# Altium schematic symbol library Schlib_Boost.SchLib: 2 symbols
Pins are listed as number, name and electrical type; pins without a type are passive.

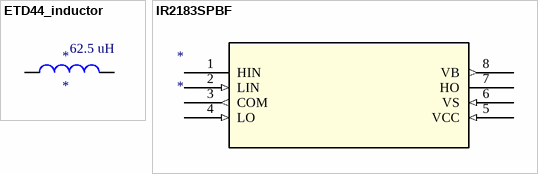
[diagram p0: symbols ETD44_inductor to IR2183SPBF]

## ETD44_inductor
designator *
footprint ETD44
pins: 1, 2
text: 62.5 uH

## IR2183SPBF
designator *
Infineon IR2183SPBF, Dual MOSFET Power Driver, 2.3A Half Bridge, 10  20 V, 8-Pin SOIC; Manufacturer: International Rectifier; Turn-On Delay Time: 35ns; Number of Outputs: 2; Max Supply Voltage: 20V; Min Supply Voltage: 10V; Turn-Off Delay Time: 220ns; Max Supply Current: 1.6mA; Power Dissipation: 625mW; Rise Time: 60ns; Propagation Delay: 330ns; Output Current: 1.9A; Supplier 1: Digi-Key; Manufacturer Part Number: IR2183SPBF; RoHS: Yes; Category: Gate Drivers; Stock 1: 12591; Pricing 1: 1=3.18000, 10=2.85300, 25=2.69760, 100=2.21800, 250=1.99016, 500=1.91824, 1000=1.59454 (USD); Mount: Surface Mount; Case/Package: SOIC; Number of Pins: 8; Min Operating Temperature: -40°C; Max Operating Temperature: 125°C; Number of Drivers: 2; Fall Time: 35ns; Max Output Current: 2.3A; Packaging: Rail/Tube; Max Power Dissipation: 625mW; Package Quantity: 95; Release Time: 220ns; Nominal Supply Current: 1.6mA; Length: 5mm; Height: 1.5mm; Width: 4mm; Radiation Hardening: No; Lead Free: Lead Free; REACH SVHC: No SVHC; ComponentLink1URL: https://datasheet.ciiva.com/15110/getdatasheetpartid-312130-15110158.pdf?src-supplier=Verical; ComponentLink1Description: https://datasheet.ciiva.com/15110/getdatasheetpartid-312130-15110158.pdf?src-supplier=Verical; ComponentLink2URL: https://datasheet.ciiva.com/1499/ir2183-1499705.pdf?src-supplier=Element14; ComponentLink2Description: https://datasheet.ciiva.com/1499/ir2183-1499705.pdf?src-supplier=Element14; ComponentLink3URL: https://datasheet.ciiva.com/14150/ir2183-eng-tds-14150381.pdf?src-supplier=Distrelec; ComponentLink3Description: https://datasheet.ciiva.com/14150/ir2183-eng-tds-14150381.pdf?src-supplier=Distrelec; ComponentLink4URL: https://datasheet.ciiva.com/16441/ir2183-16441837.pdf?src-supplier=Future+Electronics; ComponentLink4Description: https://datasheet.ciiva.com/16441/ir2183-16441837.pdf?src-supplier=Future+Electronics; ComponentLink5URL: https://datasheet.ciiva.com/17235/ir2183-17235102.pdf?src-supplier=Avnet+Europe; ComponentLink5Description: https://datasheet.ciiva.com/17235/ir2183-17235102.pdf?src-supplier=Avnet+Europe; ComponentLink6URL: https://datasheet.ciiva.com/1952/ir2183-1952783.pdf?src-supplier=Digi-Key; ComponentLink6Description: https://datasheet.ciiva.com/1952/ir2183-1952783.pdf?src-supplier=Digi-Key; Supplier Part Number 1: IR2183SPBFCT-ND
footprint IR2183
pins: 1 HIN (power), 2 LIN (in), 3 COM (out), 4 LO (in), 5 VCC (in), 6 VS (in), 7 HO (power), 8 VB (out)